# Altium footprint library SX1301DVK_e286v01a.PcbLib: 110 footprints (part 7 of 7)
Each footprint in its own frame and in the unit in brackets; x right, y up, seen from the top. Pads: shape width x height; smd on the part's side, far side on the other; paste and mask are expansions set on the pad; w line width, h text height; cw(c..) or ccw(c..) is an arc to the next point about the centre after c.
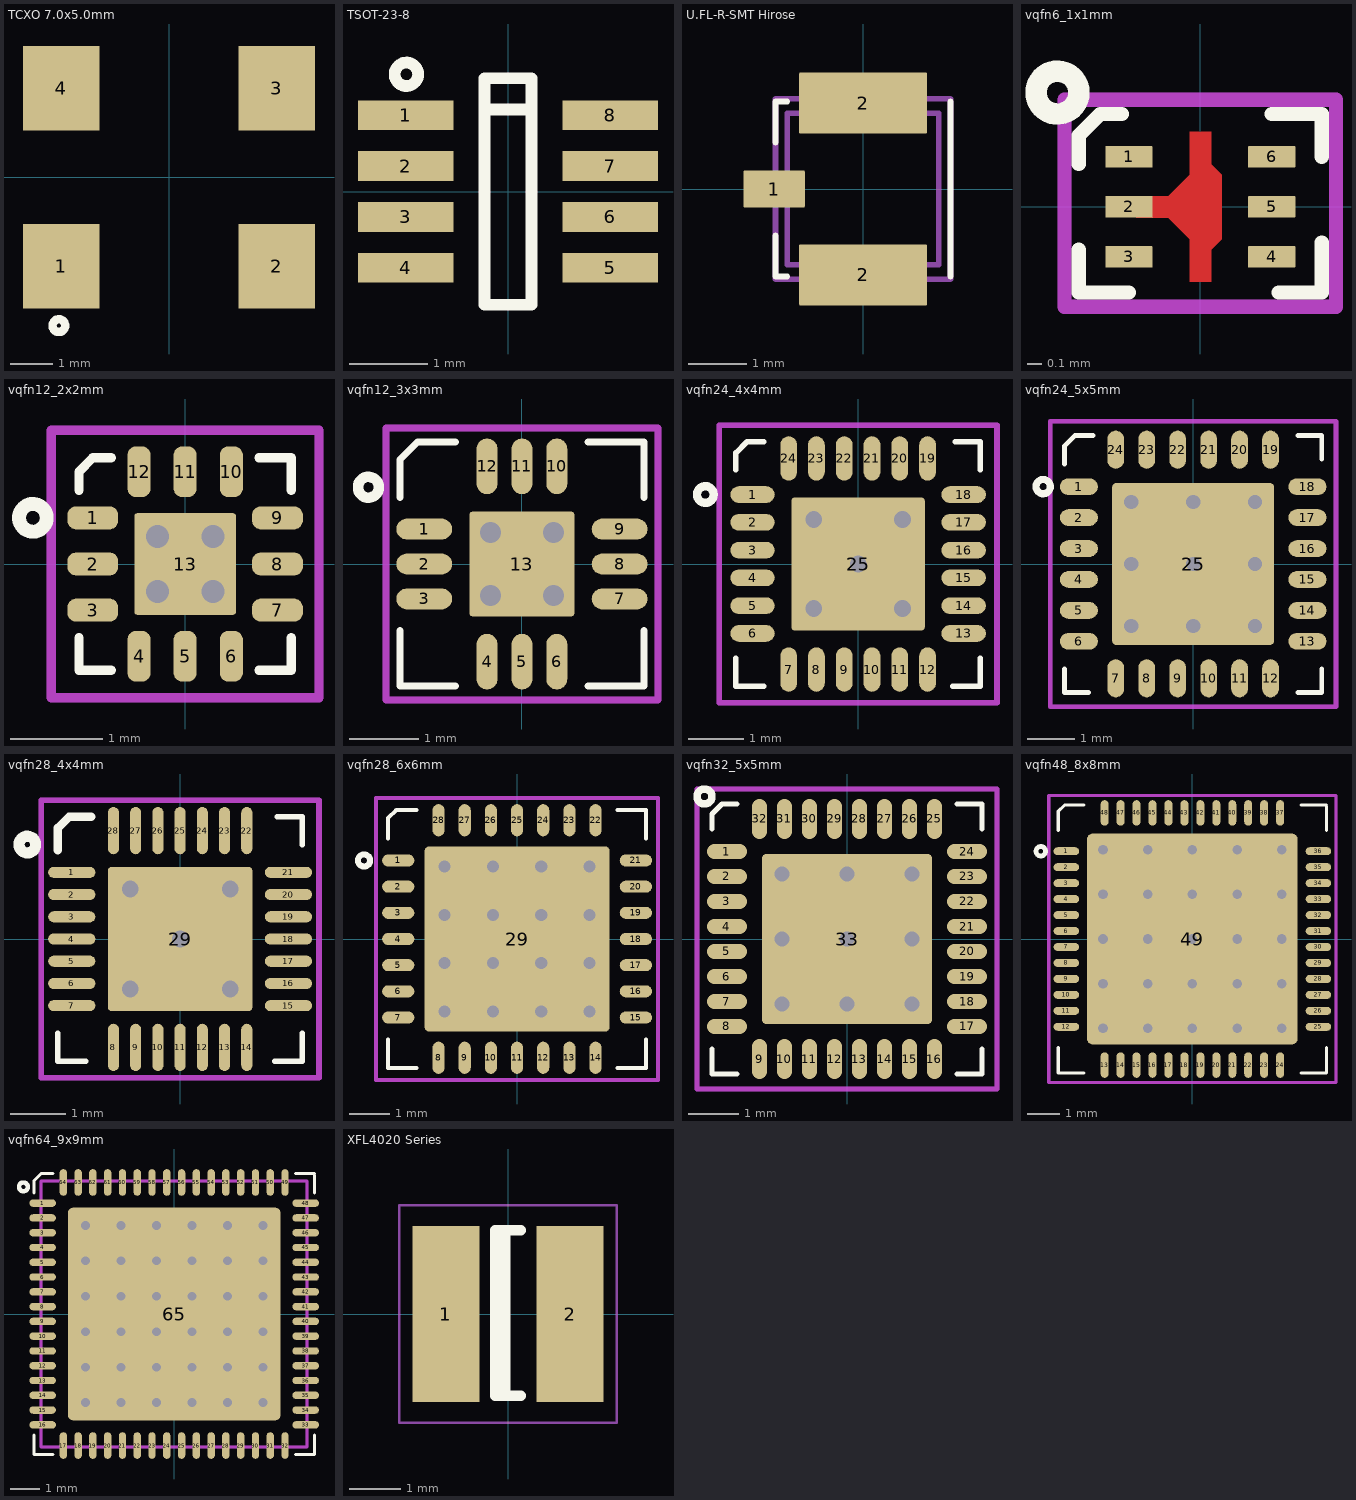
[diagram p6: the footprints below, top view; thin cyan lines are the x and y axes]

## TCXO 7.0x5.0mm [mm] "VTCXO SMD 7.0x5.0mm"
height 1
pads (4):
  rect 1.8x2 smd mask+0.05: 1(-2.54,-2.1) 2(2.54,-2.1) 3(2.54,2.1) 4(-2.54,2.1)
Top Overlay:
  circle w0.2: c-2.6,-3.5 r0.15
3D body: height 1, standoff 0, extent -3.5,-2.5 3.5,2.5

## TSOT-23-8 [mil] "TSOT-23-8"
height 39.37
pads (8):
  rect 48x15 smd mask+1.97: 1(-51.56,38.4) 2(-51.56,12.8) 3(-51.56,-12.8) 4(-51.56,-38.4) 5(51.56,-38.4) 6(51.56,-12.8) 7(51.56,12.8) 8(51.56,38.4)
Top Overlay:
  circle w5.91: c-51.18,59.06 r5.91
  lines w5.91: -11.81,41.34 11.81,41.34 ; -11.81,-57.09 11.81,-57.09 11.81,57.09 -11.81,57.09 -11.81,-57.09

## U.FL-R-SMT Hirose [mm] "Hirose U.FL RF receptacle - U.FL-R-SMT"
height 1.2
pads (3):
  rrect5% 1.05x0.635 smd: 1(-1.525,0)
  rrect5% 2.2x1.05 smd: 2(0,-1.475) 2(0,1.475)
Top Overlay:
  lines w0.1: -1.5,-0.8 -1.5,-1.5 -1.3,-1.5 ; -1.5,0.8 -1.5,1.5 -1.3,1.5 ; 1.5,-1.5 1.5,1.5
Mechanical 13:
  lines w0.1: -1.5,-1.55 1.5,-1.55 1.5,1.55 -1.5,1.55 -1.5,-1.55
Mechanical 15:
  lines w0.1: -1.3,-1.3 1.3,-1.3 1.3,1.3 -1.3,1.3 -1.3,-1.3
3D body: height 16, standoff 1.3, extent -1.5,-1.5 1.5,1.5

## vqfn6_1x1mm [mm] "6 Leads, Body 1.0x1.0mm, Pitch 0.35mm, VQFN6"
height 0.6
pads (6):
  rrect5% 0.33x0.15 smd mask+0.05: 1(-0.5,0.35) 2(-0.5,0) 3(-0.5,-0.35) 4(0.5,-0.35) 5(0.5,0) 6(0.5,0.35)
Top Layer:
  region: -0.275,-0.05 -0.275,-0.075 -0.225,-0.075 -0.05,-0.25 -0.05,-0.05
  region: -0.275,0.075 -0.225,0.075 -0.05,0.25 -0.05,0.05 -0.275,0.05
  region: -0.075,0.525 0.075,0.525 0.075,-0.525 -0.075,-0.525
  region: -0.45,0.075 -0.45,-0.075 0.075,-0.075 0.075,0.075
  region: 0.075,-0.3 0.15,-0.225 0.15,0.225 0.075,0.3
Top Overlay:
  circle w0.15: c-1,0.8 r0.15
  lines w0.1: -0.85,-0.3 -0.85,-0.6 -0.5,-0.6 ; -0.85,0.3 -0.85,0.5 -0.7,0.65 -0.55,0.65 ; 0.5,0.65 0.85,0.65 0.85,0.35 ; 0.55,-0.6 0.85,-0.6 0.85,-0.25
Top Paste:
  region: -0.075,0.5 -0.075,0.25 0.075,0.25 0.075,0.5
  region: -0.075,-0.5 -0.075,-0.25 0.075,-0.25 0.075,-0.5
  region: -0.125,0.1 -0.125,-0.1 0.15,-0.1 0.15,0.1
Top Solder:
  region: -0.4,0.125 -0.225,0.125 -0.1,0.25 -0.1,0.55 0.1,0.55 0.1,0.325 0.175,0.25 0.175,-0.25 0.1,-0.325 0.1,-0.55 -0.1,-0.55 -0.1,-0.25 -0.225,-0.125 -0.4,-0.125
Mechanical 15 keep-out:
  lines w0.1: -0.95,-0.7 -0.95,0.75 0.95,0.75 0.95,-0.7 -0.95,-0.7
3D body: height 1, standoff 0.05, extent -0.5,-0.5 0.45,0.5

## vqfn12_2x2mm [mm] "12 Leads, Body 2.0x2.0mm, Pitch 0.50mm, VQFN12"
height 1
pads (13):
  rrect75% 0.55x0.25 smd mask+0.05: 1(-1,0.5) 2(-1,0) 3(-1,-0.5) 7(1,-0.5) 8(1,0) 9(1,0.5)
  rrect75% 0.25x0.55 smd mask+0.05: 4(-0.5,-1) 5(0,-1) 6(0.5,-1) 10(0.5,1) 11(0,1) 12(-0.5,1)
  rrect5% 1.1x1.1 smd paste-0.1 mask+0.05: 13(0,0)
via -0.3,-0.3 diameter 0.5 hole 0.25
via 0.3,-0.3 diameter 0.5 hole 0.25
via 0.3,0.3 diameter 0.5 hole 0.25
via -0.3,0.3 diameter 0.5 hole 0.25
Top Overlay:
  circle w0.15: c-1.65,0.5 r0.15
  lines w0.1: -1.15,-0.8 -1.15,-1.15 -0.8,-1.15 ; -1.15,0.8 -1.15,1 -1,1.15 -0.8,1.15 ; 0.8,-1.15 1.15,-1.15 1.15,-0.8 ; 0.8,1.15 1.15,1.15 1.15,0.8
Top Paste:
  region: 0.2,0.2 -0.2,0.2 -0.2,-0.2 0.2,-0.2
Mechanical 15 keep-out:
  lines w0.1: -1.45,-1.45 1.45,-1.45 1.45,1.45 -1.45,1.45 -1.45,-1.45
3D body: height 1, standoff 0.05, extent -1,-1 1,1

## vqfn12_3x3mm [mm] "12 Leads, Body 3.0x3.0mm, Pitch 0.50mm, VQFN12"
height 1
pads (13):
  oval 0.8x0.3 smd mask+0.05: 1(-1.4,0.5) 2(-1.4,0) 3(-1.4,-0.5) 7(1.4,-0.5) 8(1.4,0) 9(1.4,0.5)
  oval 0.3x0.8 smd mask+0.05: 4(-0.5,-1.4) 5(0,-1.4) 6(0.5,-1.4) 10(0.5,1.4) 11(0,1.4) 12(-0.5,1.4)
  rrect5% 1.5x1.5 smd paste-2.1 mask+0.05: 13(0,0)
via 0.45,-0.45 diameter 0.5 hole 0.3
via -0.45,-0.45 diameter 0.5 hole 0.3
via -0.45,0.45 diameter 0.5 hole 0.3
via 0.45,0.45 diameter 0.5 hole 0.3
Top Overlay:
  circle w0.15: c-2.2,1.1 r0.15
  lines w0.1: -1.75,-0.95 -1.75,-1.75 -0.95,-1.75 ; -1.75,0.95 -1.75,1.5 -1.5,1.75 -0.95,1.75 ; 0.95,-1.75 1.75,-1.75 1.75,-0.95 ; 0.95,1.75 1.75,1.75 1.75,0.95
Top Paste:
  region: -0.3,-0.2 -0.3,0.2 -0.7,0.2 -0.7,-0.2
  region: 0.2,0.3 0.2,0.7 -0.2,0.7 -0.2,0.3
  region: 0.7,-0.2 0.7,0.2 0.3,0.2 0.3,-0.2
  region: 0.2,0.2 -0.2,0.2 -0.2,-0.2 0.2,-0.2
  region: 0.2,-0.7 0.2,-0.3 -0.2,-0.3 -0.2,-0.7
Mechanical 15 keep-out:
  lines w0.1: -1.95,-1.95 1.95,-1.95 1.95,1.95 -1.95,1.95 -1.95,-1.95
3D body: height 1, standoff 0.05, extent -1.5,-1.5 1.5,1.5

## vqfn24_4x4mm [mm] "24 Leads, Body 4.0x4.0mm, Pitch 0.50mm, VQFN24"
height 1
pads (25):
  oval 0.8x0.3 smd mask+0.05: 1(-1.9,1.25) 2(-1.9,0.75) 3(-1.9,0.25) 4(-1.9,-0.25) 5(-1.9,-0.75) 6(-1.9,-1.25) 13(1.9,-1.25) 14(1.9,-0.75) 15(1.9,-0.25) 16(1.9,0.25) 17(1.9,0.75) 18(1.9,1.25)
  oval 0.3x0.8 smd mask+0.05: 7(-1.25,-1.9) 8(-0.75,-1.9) 9(-0.25,-1.9) 10(0.25,-1.9) 11(0.75,-1.9) 12(1.25,-1.9) 19(1.25,1.9) 20(0.75,1.9) 21(0.25,1.9) 22(-0.25,1.9) 23(-0.75,1.9) 24(-1.25,1.9)
  rrect5% 2.4x2.4 smd paste-2.5 mask+0.05: 25(0,0)
via -0.8,-0.8 diameter 0.5 hole 0.3
via 0.8,-0.8 diameter 0.5 hole 0.3
via 0,0 diameter 0.5 hole 0.3
via -0.8,0.8 diameter 0.5 hole 0.3
via 0.8,0.8 diameter 0.5 hole 0.3
Top Overlay:
  circle w0.15: c-2.75,1.25 r0.15
  lines w0.1: -2.2,-1.7 -2.2,-2.2 -1.7,-2.2 ; -2.2,1.7 -2.2,2 -2,2.2 -1.7,2.2 ; 1.7,-2.2 2.2,-2.2 2.2,-1.7 ; 1.75,2.2 2.2,2.2 2.2,1.7
Top Paste:
  region: -0.3,-1.1 0.3,-1.1 0.3,-0.5 0.3,-0.4 -0.3,-0.4
  region: -0.3,0.4 0.3,0.4 0.3,1 0.3,1.1 -0.3,1.1
  region: -1.1,0.3 -1.1,-0.3 -0.5,-0.3 -0.4,-0.3 -0.4,0.3
  region: 0.4,0.3 0.4,-0.3 1,-0.3 1.1,-0.3 1.1,0.3
Mechanical 15 keep-out:
  lines w0.1: -2.5,-2.5 2.5,-2.5 2.5,2.5 -2.5,2.5 -2.5,-2.5
3D body: height 1, standoff 0.05, extent -2,-2 2,2

## vqfn24_5x5mm [mm] "24 Leads, Body 5.0x5.0mm, Pitch 0.65mm, VQFN24"
height 1
pads (25):
  oval 0.8x0.35 smd mask+0.05: 1(-2.4,1.625) 2(-2.4,0.975) 3(-2.4,0.325) 4(-2.4,-0.325) 5(-2.4,-0.975) 6(-2.4,-1.625) 13(2.4,-1.625) 14(2.4,-0.975) 15(2.4,-0.325) 16(2.4,0.325) 17(2.4,0.975) 18(2.4,1.625)
  oval 0.35x0.8 smd mask+0.05: 7(-1.625,-2.4) 8(-0.975,-2.4) 9(-0.325,-2.4) 10(0.325,-2.4) 11(0.975,-2.4) 12(1.625,-2.4) 19(1.625,2.4) 20(0.975,2.4) 21(0.325,2.4) 22(-0.325,2.4) 23(-0.975,2.4) 24(-1.625,2.4)
  rrect5% 3.4x3.4 smd paste-2.5 mask+0.05: 25(0,0)
via 0,1.3 diameter 0.5 hole 0.3
via 1.3,0 diameter 0.5 hole 0.3
via 0,-1.3 diameter 0.5 hole 0.3
via -1.3,0 diameter 0.5 hole 0.3
via -1.3,-1.3 diameter 0.5 hole 0.3
via 1.3,-1.3 diameter 0.5 hole 0.3
via 0,0 diameter 0.5 hole 0.3
via -1.3,1.3 diameter 0.5 hole 0.3
via 1.3,1.3 diameter 0.5 hole 0.3
Top Overlay:
  circle w0.15: c-3.15,1.625 r0.15
  lines w0.1: -2.7,-2.2 -2.7,-2.7 -2.2,-2.7 ; -2.7,2.1 -2.7,2.48 -2.48,2.7 -2.1,2.7 ; 2.2,-2.7 2.7,-2.7 2.7,-2.2 ; 2.2,2.7 2.7,2.7 2.7,2.2
Top Paste:
  region: 0.2,0.2 1.1,0.2 1.1,1.1 0.2,1.1
  region: -1.1,0.2 -0.2,0.2 -0.2,1.1 -1.1,1.1
  region: -1.1,-1.1 -0.2,-1.1 -0.2,-0.2 -1.1,-0.2
  region: 0.2,-1.1 1.1,-1.1 1.1,-0.2 0.2,-0.2
Mechanical 15 keep-out:
  lines w0.1: -3,-3 3,-3 3,3 -3,3 -3,-3
3D body: height 1, standoff 0.05, extent -2.5,-2.5 2.5,2.5

## vqfn28_4x4mm [mm] "28 Leads, Body 4.0x4.0mm, Pitch 0.40mm, VQFN28"
height 1
pads (29):
  oval 0.85x0.2 smd mask+0.05: 1(-1.95,1.2) 2(-1.95,0.8) 3(-1.95,0.4) 4(-1.95,0) 5(-1.95,-0.4) 6(-1.95,-0.8) 7(-1.95,-1.2) 15(1.95,-1.2) 16(1.95,-0.8) 17(1.95,-0.4) 18(1.95,0) 19(1.95,0.4) 20(1.95,0.8) 21(1.95,1.2)
  oval 0.2x0.85 smd mask+0.05: 8(-1.2,-1.95) 9(-0.8,-1.95) 10(-0.4,-1.95) 11(0,-1.95) 12(0.4,-1.95) 13(0.8,-1.95) 14(1.2,-1.95) 22(1.2,1.95) 23(0.8,1.95) 24(0.4,1.95) 25(0,1.95) 26(-0.4,1.95) 27(-0.8,1.95) 28(-1.2,1.95)
  rrect5% 2.6x2.6 smd paste-2.5 mask+0.05: 29(0,0)
via -0.9,-0.9 diameter 0.5 hole 0.3
via 0.9,-0.9 diameter 0.5 hole 0.3
via 0,0 diameter 0.5 hole 0.3
via -0.9,0.9 diameter 0.5 hole 0.3
via 0.9,0.9 diameter 0.5 hole 0.3
Top Overlay:
  circle w0.2: c-2.75,1.7 r0.15
  lines w0.1: -2.2,-1.7 -2.2,-2.2 -1.7,-2.2 ; 1.7,-2.2 2.2,-2.2 2.2,-1.7 ; 1.75,2.2 2.2,2.2 2.2,1.7
  lines w0.15: -2.2,1.6 -2.2,2 -2,2.2 -1.6,2.2
Top Paste:
  region: -0.3,-1.1 0.3,-1.1 0.3,-0.5 0.3,-0.4 -0.3,-0.4
  region: -0.3,0.4 0.3,0.4 0.3,1 0.3,1.1 -0.3,1.1
  region: -1.1,0.3 -1.1,-0.3 -0.5,-0.3 -0.4,-0.3 -0.4,0.3
  region: 0.4,0.3 0.4,-0.3 1,-0.3 1.1,-0.3 1.1,0.3
Mechanical 15 keep-out:
  lines w0.1: -2.5,-2.5 2.5,-2.5 2.5,2.5 -2.5,2.5 -2.5,-2.5
3D body: height 1, standoff 0.05, extent -2,-2 2,2

## vqfn28_6x6mm [mm] "28 Leads, Body 6.0x6.0mm, Pitch 0.65mm, VQFN28"
height 1
pads (29):
  oval 0.8x0.3 smd mask+0.05: 1(-2.95,1.95) 2(-2.95,1.3) 3(-2.95,0.65) 4(-2.95,0) 5(-2.95,-0.65) 6(-2.95,-1.3) 7(-2.95,-1.95) 15(2.95,-1.95) 16(2.95,-1.3) 17(2.95,-0.65) 18(2.95,0) 19(2.95,0.65) 20(2.95,1.3) 21(2.95,1.95)
  oval 0.3x0.8 smd mask+0.05: 8(-1.95,-2.95) 9(-1.3,-2.95) 10(-0.65,-2.95) 11(0,-2.95) 12(0.65,-2.95) 13(1.3,-2.95) 14(1.95,-2.95) 22(1.95,2.95) 23(1.3,2.95) 24(0.65,2.95) 25(0,2.95) 26(-0.65,2.95) 27(-1.3,2.95) 28(-1.95,2.95)
  rrect5% 4.6x4.6 smd paste-3.3 mask+0.05: 29(0,0)
via 1.8,0.6 diameter 0.6 hole 0.3
via 1.8,1.8 diameter 0.6 hole 0.3
via 0.6,1.8 diameter 0.6 hole 0.3
via 0.6,0.6 diameter 0.6 hole 0.3
via -0.6,-0.6 diameter 0.6 hole 0.3
via -0.6,0.6 diameter 0.6 hole 0.3
via -0.6,1.8 diameter 0.6 hole 0.3
via -1.8,-1.8 diameter 0.6 hole 0.3
via -0.6,-1.8 diameter 0.6 hole 0.3
via 1.8,-1.8 diameter 0.6 hole 0.3
via 0.6,-0.6 diameter 0.6 hole 0.3
via -1.8,0.6 diameter 0.6 hole 0.3
via -1.8,-0.6 diameter 0.6 hole 0.3
via -1.8,1.8 diameter 0.6 hole 0.3
via 1.8,-0.6 diameter 0.6 hole 0.3
via 0.6,-1.8 diameter 0.6 hole 0.3
Top Overlay:
  circle w0.15: c-3.8,1.95 r0.15
  lines w0.1: -3.2,-2.5 -3.2,-3.2 -2.5,-3.2 ; -3.2,2.5 -3.2,3 -3,3.2 -2.5,3.2 ; 2.5,-3.2 3.2,-3.2 3.2,-2.5 ; 2.5,3.2 3.2,3.2 3.2,2.5
Top Paste:
  region: 0.8,1.6 0.8,0.8 1.6,0.8 1.6,1.6
  region: -0.4,0.4 -0.4,-0.4 0.4,-0.4 0.4,0.4
  region: -1.6,0.4 -1.6,-0.4 -0.8,-0.4 -0.8,0.4
  region: -0.4,1.6 -0.4,0.8 0.4,0.8 0.4,1.6
  region: -1.6,1.6 -1.6,0.8 -0.8,0.8 -0.8,1.6
  region: 0.8,0.4 0.8,-0.4 1.6,-0.4 1.6,0.4
  region: -0.4,-0.8 -0.4,-1.6 0.4,-1.6 0.4,-0.8
  region: 0.8,-0.8 0.8,-1.6 1.6,-1.6 1.6,-0.8
  region: -1.6,-0.8 -1.6,-1.6 -0.8,-1.6 -0.8,-0.8
Mechanical 15 keep-out:
  lines w0.1: -3.5,-3.5 3.5,-3.5 3.5,3.5 -3.5,3.5 -3.5,-3.5
3D body: height 1, standoff 0.05, extent -3,-3 3,3

## vqfn32_5x5mm [mm] "32 Leads, Body 5.0x5.0mm, Pitch 0.50mm, VQFN32"
height 1
pads (33):
  oval 0.8x0.3 smd mask+0.05: 1(-2.4,1.75) 2(-2.4,1.25) 3(-2.4,0.75) 4(-2.4,0.25) 5(-2.4,-0.25) 6(-2.4,-0.75) 7(-2.4,-1.25) 8(-2.4,-1.75) 17(2.4,-1.75) 18(2.4,-1.25) 19(2.4,-0.75) 20(2.4,-0.25) 21(2.4,0.25) 22(2.4,0.75) 23(2.4,1.25) 24(2.4,1.75)
  oval 0.3x0.8 smd mask+0.05: 9(-1.75,-2.4) 10(-1.25,-2.4) 11(-0.75,-2.4) 12(-0.25,-2.4) 13(0.25,-2.4) 14(0.75,-2.4) 15(1.25,-2.4) 16(1.75,-2.4) 25(1.75,2.4) 26(1.25,2.4) 27(0.75,2.4) 28(0.25,2.4) 29(-0.25,2.4) 30(-0.75,2.4) 31(-1.25,2.4) 32(-1.75,2.4)
  rrect5% 3.4x3.4 smd paste-3.2 mask+0.05: 33(0,0)
via 0,-1.3 diameter 0.5 hole 0.3
via 0,1.3 diameter 0.5 hole 0.3
via 1.3,0 diameter 0.5 hole 0.3
via -1.3,0 diameter 0.5 hole 0.3
via 1.3,-1.3 diameter 0.5 hole 0.3
via -1.3,-1.3 diameter 0.5 hole 0.3
via 1.3,1.3 diameter 0.5 hole 0.3
via -1.3,1.3 diameter 0.5 hole 0.3
via 0,0 diameter 0.5 hole 0.3
Top Overlay:
  circle w0.15: c-2.85,2.85 r0.15
  lines w0.1: -2.7,-2.2 -2.7,-2.7 -2.2,-2.7 ; -2.7,2.2 -2.7,2.5 -2.5,2.7 -2.2,2.7 ; 2.2,-2.7 2.7,-2.7 2.7,-2.2 ; 2.2,2.7 2.7,2.7 2.7,2.2
Top Paste:
  region: 0.3,1.1 1.1,1.1 1.1,0.3 0.3,0.3
  region: 0.3,-0.3 1.1,-0.3 1.1,-1.1 0.3,-1.1
  region: -0.3,-0.3 -0.3,-1.1 -1.1,-1.1 -1.1,-0.3
  region: -1.1,1.1 -1.1,0.3 -0.3,0.3 -0.3,1.1
Mechanical 15 keep-out:
  lines w0.1: -3,-3 -3,3 3,3 3,-3 -3,-3
3D body: height 1, standoff 0.05, extent -2.5,-2.5 2.5,2.5

## vqfn48_8x8mm [mm] "VQFN48 Leads, Body 8.0x8.0mm, Pitch 0.50mm, VQFN48"
height 1
pads (49):
  oval 0.8x0.25 smd mask+0.05: 1(-3.95,2.75) 2(-3.95,2.25) 3(-3.95,1.75) 4(-3.95,1.25) 5(-3.95,0.75) 6(-3.95,0.25) 7(-3.95,-0.25) 8(-3.95,-0.75) 9(-3.95,-1.25) 10(-3.95,-1.75) 11(-3.95,-2.25) 12(-3.95,-2.75) 25(3.95,-2.75) 26(3.95,-2.25) 27(3.95,-1.75) 28(3.95,-1.25) 29(3.95,-0.75) 30(3.95,-0.25) 31(3.95,0.25) 32(3.95,0.75) 33(3.95,1.25) 34(3.95,1.75) 35(3.95,2.25) 36(3.95,2.75)
  oval 0.25x0.8 smd mask+0.05: 13(-2.75,-3.95) 14(-2.25,-3.95) 15(-1.75,-3.95) 16(-1.25,-3.95) 17(-0.75,-3.95) 18(-0.25,-3.95) 19(0.25,-3.95) 20(0.75,-3.95) 21(1.25,-3.95) 22(1.75,-3.95) 23(2.25,-3.95) 24(2.75,-3.95) 37(2.75,3.95) 38(2.25,3.95) 39(1.75,3.95) 40(1.25,3.95) 41(0.75,3.95) 42(0.25,3.95) 43(-0.25,3.95) 44(-0.75,3.95) 45(-1.25,3.95) 46(-1.75,3.95) 47(-2.25,3.95) 48(-2.75,3.95)
  rrect5% 6.6x6.6 smd paste-6.6 mask+0.05: 49(0,0)
via 2.8,2.8 diameter 0.5 hole 0.3
via 2.8,-2.8 diameter 0.5 hole 0.3
via 1.4,-2.8 diameter 0.5 hole 0.3
via 0,-2.8 diameter 0.5 hole 0.3
via -1.4,0 diameter 0.5 hole 0.3
via -1.4,-2.8 diameter 0.5 hole 0.3
via -2.8,-2.8 diameter 0.5 hole 0.3
via 2.8,-1.4 diameter 0.5 hole 0.3
via 0,-1.4 diameter 0.5 hole 0.3
via -1.4,-1.4 diameter 0.5 hole 0.3
via -2.8,-1.4 diameter 0.5 hole 0.3
via 1.4,-1.4 diameter 0.5 hole 0.3
via -2.8,0 diameter 0.5 hole 0.3
via 2.8,0 diameter 0.5 hole 0.3
via 0,0 diameter 0.5 hole 0.3
via 1.4,0 diameter 0.5 hole 0.3
via 2.8,1.4 diameter 0.5 hole 0.3
via 0,1.4 diameter 0.5 hole 0.3
via -2.8,1.4 diameter 0.5 hole 0.3
via 1.4,2.8 diameter 0.5 hole 0.3
via 0,2.8 diameter 0.5 hole 0.3
via -1.4,2.8 diameter 0.5 hole 0.3
via 1.4,1.4 diameter 0.5 hole 0.3
via -2.8,2.8 diameter 0.5 hole 0.3
via -1.4,1.4 diameter 0.5 hole 0.3
Top Overlay:
  circle w0.15: c-4.75,2.75 r0.15
  lines w0.1: -4.2,-3.4 -4.2,-4.2 -3.4,-4.2 ; -4.2,3.4 -4.2,4 -4,4.2 -3.4,4.2 ; 3.4,-4.2 4.2,-4.2 4.2,-3.4 ; 3.4,4.2 4.2,4.2 ; 4.2,3.4 4.2,4.15
Top Paste:
  region: -2.5,-1.7 -2.5,-2.5 -1.7,-2.5 -1.7,-1.7
  region: -1.1,-1.7 -1.1,-2.5 -0.3,-2.5 -0.3,-1.7
  region: 0.3,-1.7 0.3,-2.5 1.1,-2.5 1.1,-1.7
  region: -2.5,-0.3 -2.5,-1.1 -1.7,-1.1 -1.7,-0.3
  region: -1.1,-0.3 -1.1,-1.1 -0.3,-1.1 -0.3,-0.3
  region: 0.3,-0.3 0.3,-1.1 1.1,-1.1 1.1,-0.3
  region: -2.5,1.1 -2.5,0.3 -1.7,0.3 -1.7,1.1
  region: -1.1,1.1 -1.1,0.3 -0.3,0.3 -0.3,1.1
  region: -2.5,2.5 -2.5,1.7 -1.7,1.7 -1.7,2.5
  region: -1.1,2.5 -1.1,1.7 -0.3,1.7 -0.3,2.5
  region: 0.3,2.5 0.3,1.7 1.1,1.7 1.1,2.5
  region: 0.3,1.1 0.3,0.3 1.1,0.3 1.1,1.1
  region: 1.7,-1.7 1.7,-2.5 2.5,-2.5 2.5,-1.7
  region: 1.7,-0.3 1.7,-1.1 2.5,-1.1 2.5,-0.3
  region: 1.7,1.1 1.7,0.3 2.5,0.3 2.5,1.1
  region: 1.7,2.5 1.7,1.7 2.5,1.7 2.5,2.5
Mechanical 15 keep-out:
  lines w0.1: -4.5,-4.5 -4.5,4.5 4.5,4.5 4.5,-4.5 -4.5,-4.5
3D body: height 1, standoff 0.05, extent -4,-4 4,4

## vqfn64_9x9mm [mm] "VQFN64 Leads, Body 9.0x9.0mm, Pitch 0.50mm, VQFN64"
height 1
pads (65):
  oval 0.9x0.25 smd mask+0.05: 1(-4.45,3.75) 2(-4.45,3.25) 3(-4.45,2.75) 4(-4.45,2.25) 5(-4.45,1.75) 6(-4.45,1.25) 7(-4.45,0.75) 8(-4.45,0.25) 9(-4.45,-0.25) 10(-4.45,-0.75) 11(-4.45,-1.25) 12(-4.45,-1.75) 13(-4.45,-2.25) 14(-4.45,-2.75) 15(-4.45,-3.25) 16(-4.45,-3.75) 33(4.45,-3.75) 34(4.45,-3.25) 35(4.45,-2.75) 36(4.45,-2.25) 37(4.45,-1.75) 38(4.45,-1.25) 39(4.45,-0.75) 40(4.45,-0.25) 41(4.45,0.25) 42(4.45,0.75) 43(4.45,1.25) 44(4.45,1.75) 45(4.45,2.25) 46(4.45,2.75) 47(4.45,3.25) 48(4.45,3.75)
  oval 0.25x0.9 smd mask+0.05: 17(-3.75,-4.45) 18(-3.25,-4.45) 19(-2.75,-4.45) 20(-2.25,-4.45) 21(-1.75,-4.45) 22(-1.25,-4.45) 23(-0.75,-4.45) 24(-0.25,-4.45) 25(0.25,-4.45) 26(0.75,-4.45) 27(1.25,-4.45) 28(1.75,-4.45) 29(2.25,-4.45) 30(2.75,-4.45) 31(3.25,-4.45) 32(3.75,-4.45) 49(3.75,4.45) 50(3.25,4.45) 51(2.75,4.45) 52(2.25,4.45) 53(1.75,4.45) 54(1.25,4.45) 55(0.75,4.45) 56(0.25,4.45) 57(-0.25,4.45) 58(-0.75,4.45) 59(-1.25,4.45) 60(-1.75,4.45) 61(-2.25,4.45) 62(-2.75,4.45) 63(-3.25,4.45) 64(-3.75,4.45)
  rrect5% 7.2x7.2 smd paste-6.6 mask+0.05: 65(0,0)
via 3,3 diameter 0.6 hole 0.3
via 3,1.8 diameter 0.6 hole 0.3
via 3,0.6 diameter 0.6 hole 0.3
via 3,-0.6 diameter 0.6 hole 0.3
via 3,-1.8 diameter 0.6 hole 0.3
via 3,-3 diameter 0.6 hole 0.3
via 1.8,-3 diameter 0.6 hole 0.3
via 1.8,-1.8 diameter 0.6 hole 0.3
via 1.8,-0.6 diameter 0.6 hole 0.3
via 1.8,0.6 diameter 0.6 hole 0.3
via 0.6,1.8 diameter 0.6 hole 0.3
via 0.6,0.6 diameter 0.6 hole 0.3
via 0.6,-0.6 diameter 0.6 hole 0.3
via 0.6,-1.8 diameter 0.6 hole 0.3
via 0.6,-3 diameter 0.6 hole 0.3
via -0.6,-3 diameter 0.6 hole 0.3
via -0.6,-1.8 diameter 0.6 hole 0.3
via -0.6,-0.6 diameter 0.6 hole 0.3
via 1.8,3 diameter 0.6 hole 0.3
via 0.6,3 diameter 0.6 hole 0.3
via -0.6,3 diameter 0.6 hole 0.3
via 1.8,1.8 diameter 0.6 hole 0.3
via -1.8,3 diameter 0.6 hole 0.3
via -1.8,0.6 diameter 0.6 hole 0.3
via -1.8,-0.6 diameter 0.6 hole 0.3
via -1.8,-1.8 diameter 0.6 hole 0.3
via -1.8,-3 diameter 0.6 hole 0.3
via -1.8,1.8 diameter 0.6 hole 0.3
via -0.6,1.8 diameter 0.6 hole 0.3
via -0.6,0.6 diameter 0.6 hole 0.3
via -3,0.6 diameter 0.6 hole 0.3
via -3,1.8 diameter 0.6 hole 0.3
via -3,3 diameter 0.6 hole 0.3
via -3,-1.8 diameter 0.6 hole 0.3
via -3,-3 diameter 0.6 hole 0.3
via -3,-0.6 diameter 0.6 hole 0.3
Top Overlay:
  circle w0.15: c-5.1,4.3 r0.15
  lines w0.1: -4.75,-4.1 -4.75,-4.75 -4.1,-4.75 ; -4.75,4.1 -4.75,4.5 -4.5,4.75 -4.1,4.75 ; 4.1,-4.75 4.75,-4.75 4.75,-4.1 ; 4.1,4.75 4.75,4.75 ; 4.75,4.1 4.75,4.7
Top Paste:
  region: -2.9,-1.9 -2.9,-2.9 -1.9,-2.9 -1.9,-1.9
  region: -2.9,-0.7 -2.9,-1.7 -1.9,-1.7 -1.9,-0.7
  region: -2.9,0.5 -2.9,-0.5 -1.9,-0.5 -1.9,0.5
  region: -2.9,2.9 -2.9,1.9 -1.9,1.9 -1.9,2.9
  region: -2.9,1.7 -2.9,0.7 -1.9,0.7 -1.9,1.7
  region: -1.7,1.7 -1.7,0.7 -0.7,0.7 -0.7,1.7
  region: -1.7,2.9 -1.7,1.9 -0.7,1.9 -0.7,2.9
  region: -1.7,0.5 -1.7,-0.5 -0.7,-0.5 -0.7,0.5
  region: -1.7,-0.7 -1.7,-1.7 -0.7,-1.7 -0.7,-0.7
  region: -1.7,-1.9 -1.7,-2.9 -0.7,-2.9 -0.7,-1.9
  region: -0.5,1.7 -0.5,0.7 0.5,0.7 0.5,1.7
  region: -0.5,2.9 -0.5,1.9 0.5,1.9 0.5,2.9
  region: -0.5,0.5 -0.5,-0.5 0.5,-0.5 0.5,0.5
  region: -0.5,-0.7 -0.5,-1.7 0.5,-1.7 0.5,-0.7
  region: -0.5,-1.9 -0.5,-2.9 0.5,-2.9 0.5,-1.9
  region: 0.7,1.7 0.7,0.7 1.7,0.7 1.7,1.7
  region: 0.7,2.9 0.7,1.9 1.7,1.9 1.7,2.9
  region: 0.7,0.5 0.7,-0.5 1.7,-0.5 1.7,0.5
  region: 0.7,-0.7 0.7,-1.7 1.7,-1.7 1.7,-0.7
  region: 0.7,-1.9 0.7,-2.9 1.7,-2.9 1.7,-1.9
  region: 1.9,1.7 1.9,0.7 2.9,0.7 2.9,1.7
  region: 1.9,2.9 1.9,1.9 2.9,1.9 2.9,2.9
  region: 1.9,0.5 1.9,-0.5 2.9,-0.5 2.9,0.5
  region: 1.9,-0.7 1.9,-1.7 2.9,-1.7 2.9,-0.7
  region: 1.9,-1.9 1.9,-2.9 2.9,-2.9 2.9,-1.9
Mechanical 15 keep-out:
  lines w0.1: -4.5,-4.5 4.5,-4.5 4.5,4.5 -4.5,4.5 -4.5,-4.5
3D body: height 1, standoff 0.05, extent -4.5,-4.5 4.5,4.5

## XFL4020 Series [mm] "Chip SMD component ; Body 4.0 x 4.0 mm (LxW typ)"
height 2.1
pads (2):
  rect 1.3x3.4 smd mask+0.05: 1(-1.2,0) 2(1.2,0)
Top Overlay:
  lines w0.2: -0.056,-1.579 -0.056,1.621 ; 0.25,-1.579 -0.246,-1.579 -0.246,1.621 0.25,1.621
Mechanical 15:
  lines w0.05: -2.1,-2.1 -2.1,2.1 2.1,2.1 2.1,-2.1 -2.1,-2.1